# Altium footprint library SM_POWERPAK-SO-8L.PcbLib: 1 footprints
Each footprint in its own frame and in the unit in brackets; x right, y up, seen from the top. Pads: shape width x height; smd on the part's side, far side on the other; paste and mask are expansions set on the pad; w line width, h text height; cw(c..) or ccw(c..) is an arc to the next point about the centre after c.
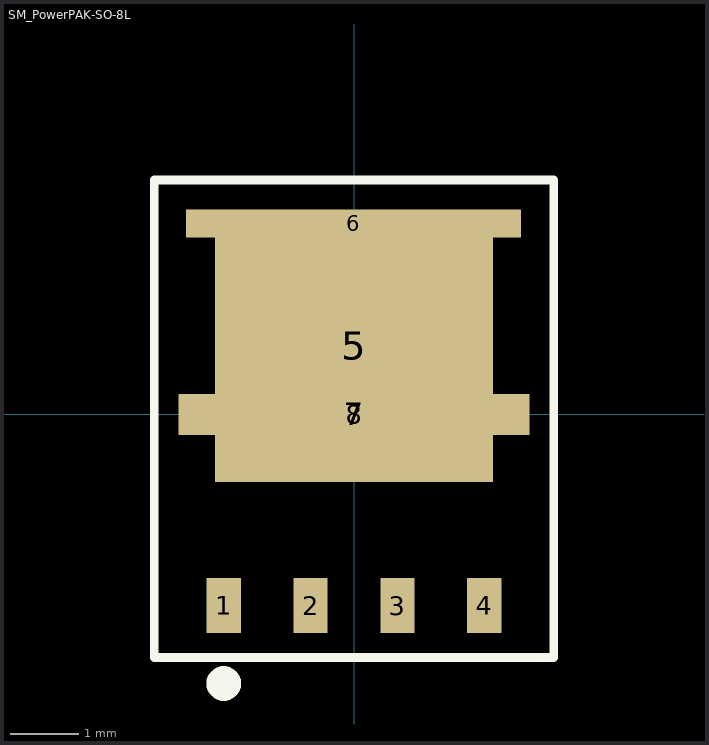
[diagram p0: the footprint, top view; thin cyan lines are the x and y axes]

## SM_PowerPAK-SO-8L [mm] "5.25mm x 6.25mm x 1.14mm"
height 1.14
pads (8):
  rect 0.5x0.8 smd mask+0.076: 1(-1.905,-2.797) 2(-0.635,-2.797) 3(0.635,-2.797) 4(1.905,-2.797)
  rect 4.061x3.99 smd mask+0.076: 5(0,1.003)
  rect 4.9x0.41 smd mask+0.076: 6(-0.005,2.797)
  rect 5.13x0.6 smd mask+0.076: 7(0,0)
  rect 0.5x0.5 smd mask+0.076: 8(0,0)
Top Overlay:
  circle w0.254: c-1.905,-3.937 r0.127
  lines w0.127: -2.921,-3.556 2.921,-3.556 2.921,-2.159 2.921,3.429 -2.921,3.429 -2.921,2.794 -2.921,-3.556
3D body: height 1.14, standoff 0, extent -2.625,-3.125 2.625,3.125